# Altium footprint library CD1206-B2100 v1.PCBLIB: 1 footprints
Each footprint in its own frame and in the unit in brackets; x right, y up, seen from the top. Pads: shape width x height; smd on the part's side, far side on the other; paste and mask are expansions set on the pad; w line width, h text height; cw(c..) or ccw(c..) is an arc to the next point about the centre after c.
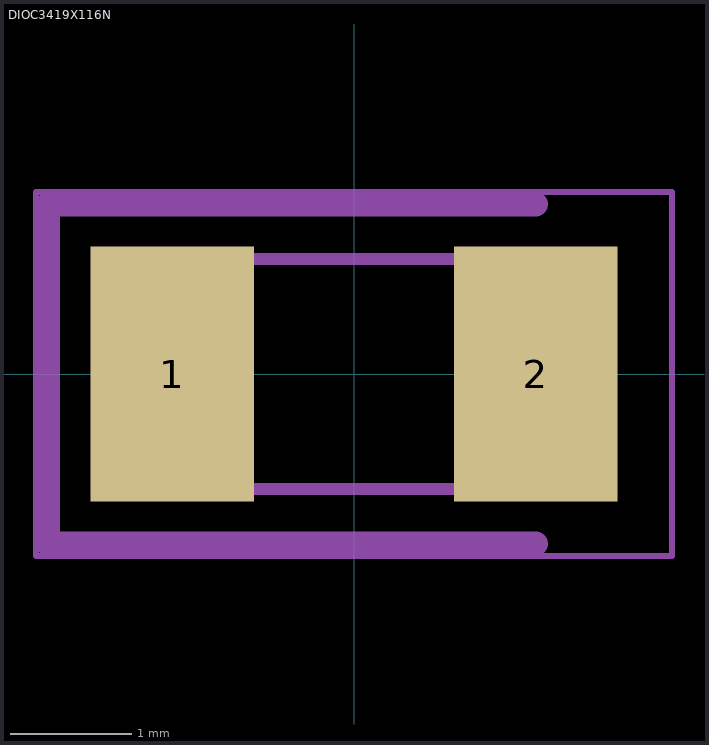
[diagram p0: the footprint, top view; thin cyan lines are the x and y axes]

## DIOC3419X116N [mm]
pads (2):
  rect 1.35x2.1 smd: 1(-1.5,0) 2(1.5,0)
tDocu:
  lines w0.05: -2.625,-1.5 2.625,-1.5 2.625,1.5 -2.625,1.5 -2.625,-1.5
  lines w0.1: -1.7,0.275 -1.025,0.95 ; -1.7,-0.95 1.7,-0.95 1.7,0.95 -1.7,0.95 -1.7,-0.95
tPlace:
  lines w0.2: 1.5,-1.4 -2.525,-1.4 -2.525,1.4 1.5,1.4